# Altium integrated library workerBoard_recovered.IntLib: 33 symbols
Pins are listed as number, name and electrical type; pins without a type are passive.

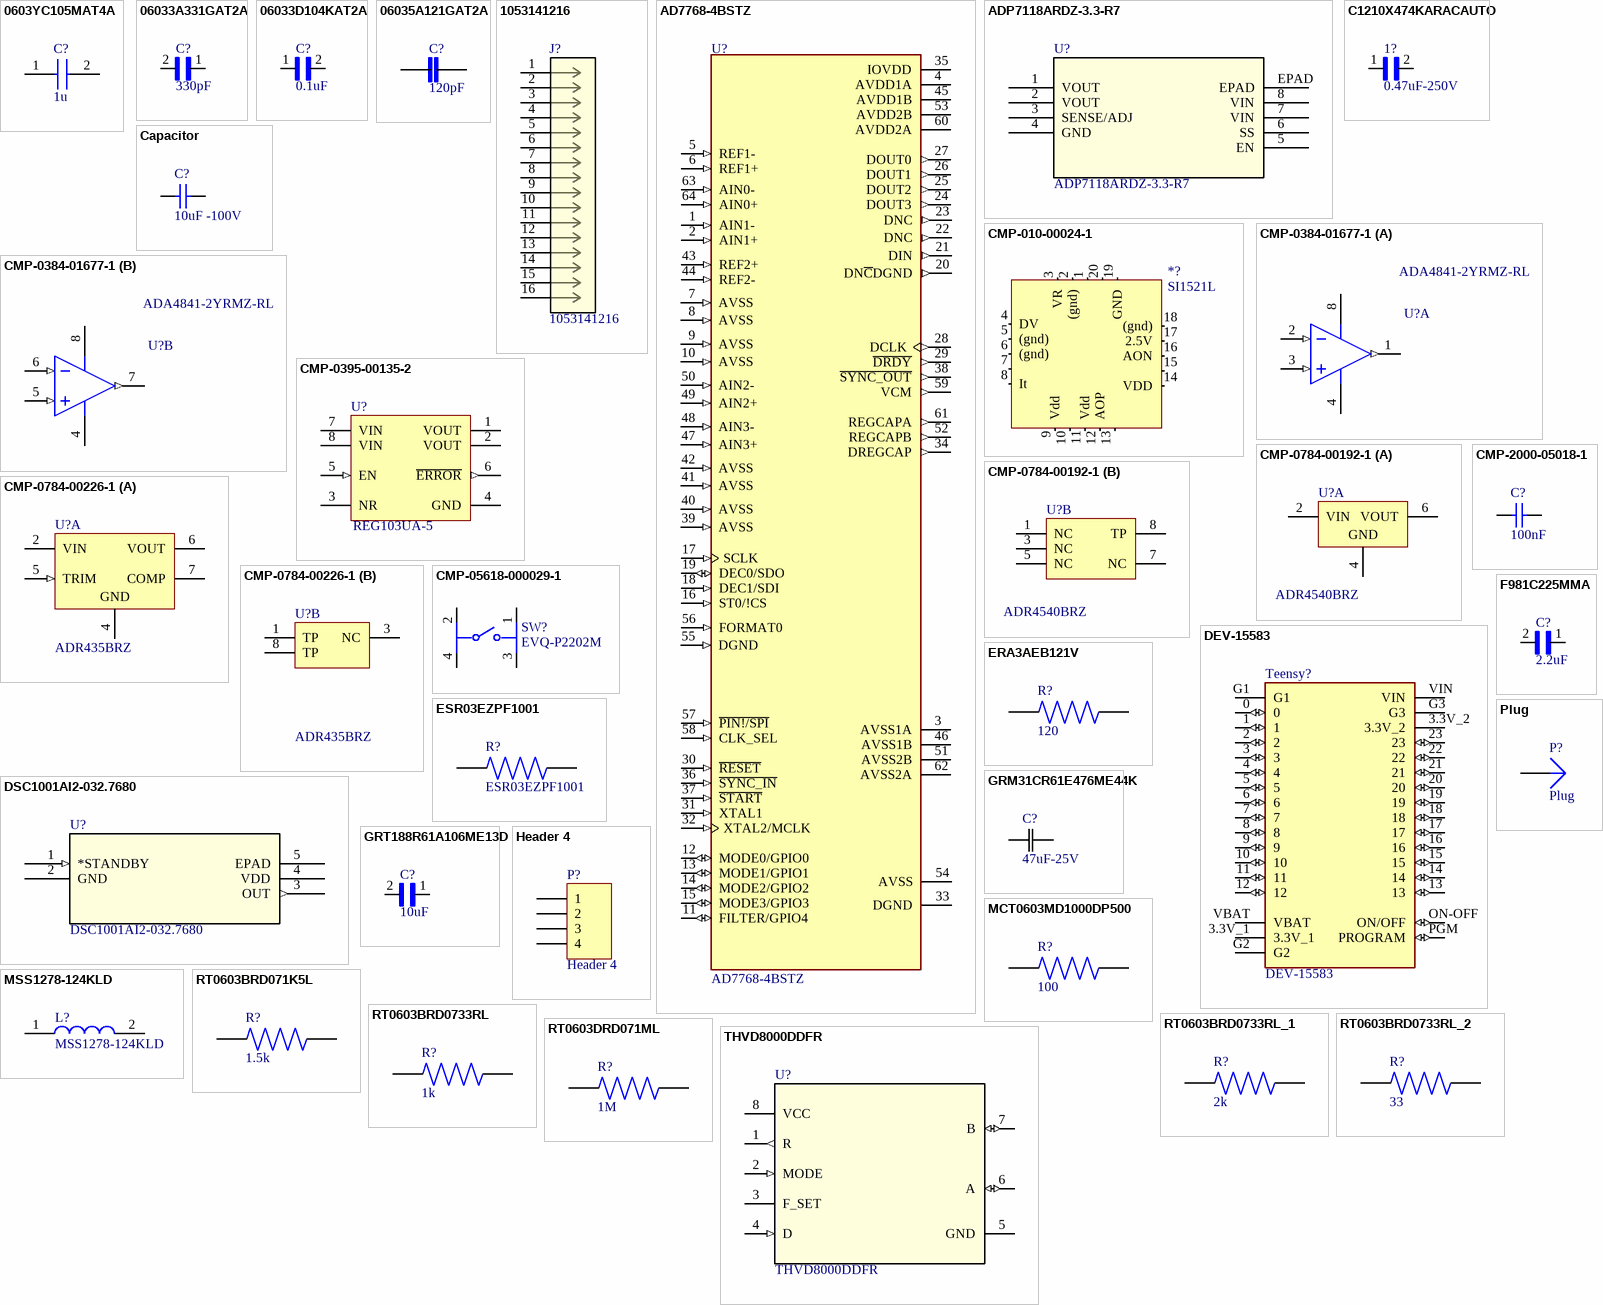
[diagram p0: symbols 0603YC105MAT4A to THVD8000DDFR]

## 0603YC105MAT4A
designator C?, comment 1u
Capacitor; Manufacturer_Name: AVX; Manufacturer_Part_Number: 0603YC105MAT4A; Datasheet Link: https://componentsearchengine.com/Datasheets/1/06031A100FAT2A.pdf; Height: 0.9mm
footprint CAPC1608X90N
pins: 1, 2

## 06033A331GAT2A
designator C?, comment 330pF
0603 SMD Ceramic Capacitors 0603 330pF 25volts C0G 2%; MP: 06033A331GAT2A; MF: {'manufacturer': u'AVX'}; Price: None; Availability: Unavailable; Value: *; Package: None
footprint CAPC1608X90
pins: 1, 2

## 06033D104KAT2A
designator C?, comment 0.1uF
Cap Ceramic 0.1uF 25V X5R 10% SMD 0603 85ÂÂŽ T/R; MP: 06033D104KAT2A; MF: {'manufacturer': u'AVX'}; Price: None; Availability: Unavailable; Value: *; Package: None
footprint CAPC1608X90N
pins: 1, 2

## 06035A121GAT2A
designator C?, comment 120pF
0603 120 pF 50 V Â±2 % Tolerance C0G/NP0 SMT Multilayer Ceramic Capacitor; MP: 06035A121GAT2A; MF: {'manufacturer': u'AVX'}; Price: None; Availability: Unavailable; Value: *; Package: None
footprint CAPC1608X90
pins: 1, 2

## 1053141216
designator J?
No Description Available; Mfr_Name: Molex Connector Corporation; Copyright: Copyright (C) 2021 Ultra Librarian. All rights reserved.; Manufacturer_Part_Number: 1053141216; Digi-Key_Part_Number_1: WM15165-ND; RefDes: RefDes; Type: DEV
footprint CON_1053141216
pins: 1, 2, 3, 4, 5, 6, 7, 8, 9, 10, 11, 12, 13, 14, 15, 16

## AD7768-4BSTZ
designator U?
24 Bit Analog to Digital Converter 4 Input 4 Sigma-Delta 64-LQFP _10x10_; MF: Analog Devices; Digi-Key_Purchase_URL: https://www.digikey.com/product-detail/en/analog-devices-inc/AD7768-4BSTZ/AD7768-4BSTZ-ND/6072260?utm_source=snapeda&utm_medium=aggregator&utm_campaign=symbol; Package: LQFP -64 Analog Devices; SnapEDA_Link: https://www.snapeda.com/parts/AD7768-4BSTZ/Analog%20Devices%20Inc./view-part/501603/?ref=snap; Value: *; MP: AD7768-4BSTZ; Digi-Key_Part_Number: AD7768-4BSTZ-ND
footprint QFP50P1200X1200X160-64N
pins: 1 AIN1- (in), 2 AIN1+ (in), 3 AVSS1A (power), 4 AVDD1A (power), 5 REF1- (in), 6 REF1+ (in), 7 AVSS (in), 8 AVSS (in), 9 AVSS (in), 10 AVSS (in), 11 FILTER/GPIO4 (io), 12 MODE0/GPIO0 (io), 13 MODE1/GPIO1 (io), 14 MODE2/GPIO2 (io), 15 MODE3/GPIO3 (io), 16 ST0/!CS (in), 17 SCLK (in), 18 DEC1/SDI (in), 19 DEC0/SDO (io), 20 DN~{C}DGND (out), 21 DIN (out), 22 DNC (out), 23 DNC (out), 24 DOUT3 (out), 25 DOUT2 (out), 26 DOUT1 (out), 27 DOUT0 (out), 28 DCLK (out), 29 ~{DRDY} (out), 30 ~{RESET} (in), 31 XTAL1 (in), 32 XTAL2/MCLK (in), 33 DGND (power), 34 DREGCAP (out), 35 IOVDD (power), 36 ~{SYNC_IN} (in), 37 ~{START} (in), 38 ~{SYNC_OUT} (out), 39 AVSS (in), 40 AVSS (in), 41 AVSS (in), 42 AVSS (in), 43 REF2+ (in), 44 REF2- (in), 45 AVDD1B (power), 46 AVSS1B (power), 47 AIN3+ (in), 48 AIN3- (in), 49 AIN2+ (in), 50 AIN2- (in), 51 AVSS2B (power), 52 REGCAPB (out), 53 AVDD2B (power), 54 AVSS (power), 55 DGND (in), 56 FORMAT0 (in), 57 ~{PIN!/SPI} (in), 58 CLK_SEL (in), 59 VCM (out), 60 AVDD2A (power), 61 REGCAPA (out), 62 AVSS2A (power), 63 AIN0- (in), 64 AIN0+ (in)

## ADP7118ARDZ-3.3-R7
designator U?
No Description Available; Mfr_Name: Analog Devices Inc; Copyright: Copyright (C) 2021 Ultra Librarian. All rights reserved.; Manufacturer_Part_Number: ADP7118ARDZ-3.3-R7; RefDes: RefDes; Type: DEV
footprint SOIC_08_EP_3P9X4P9_ADI
footprint Model Name (Footprint not found)
footprint Model Name (Footprint not found)
footprint Model Name (Footprint not found)
pins: 1 VOUT (power), 2 VOUT (power), 3 SENSE/ADJ, 4 GND, 5 EN, 6 SS, 7 VIN, 8 VIN, EPAD

## C1210X474KARACAUTO
designator 1?, comment 0.47uF-250V
MP: C1210X474KARACAUTO; MF: {'manufacturer': u'KEMET'}; Value: *; Package: None; Price: None; Availability: Unavailable
footprint CAPC3326X280N
footprint Model Name (Footprint not found)
footprint CAPC3326X280N
pins: 1, 2

## Capacitor
designator C?  value 10uF -100V  (hidden comment: Capacitor)
SimulationGenericComponent: True
simulation model C_Capacitor_Default (CAP)
pins: 1, 2

## CMP-010-00024-1
designator *?, comment SI1521L
Silicon Design SI-1521L-002 +- 2g LCC-20 Surface mount accelerometer; Component Type: Sensors
footprint LCC127P889X889X254-20N (LCC, 20-Pins, Body 8.89x8.89mmx2.54mm, Pitch 1.27mm, IPC Medium Density)
pins: 1 (in), 2 (gnd) (in), 3 VR (in), 4 DV (in), 5 (gnd) (in), 6 (gnd) (in), 7 (in), 8 It (in), 9 Vdd (in), 10 (in), 11 Vdd (in), 12 AOP (in), 13 (in), 14 VDD (in), 15 (in), 16 AON (in), 17 2.5V (in), 18 (gnd) (in), 19 GND (in), 20 (in)

## CMP-0384-01677-1
designator U?, comment ADA4841-2YRMZ-RL
Double Channel Low Wide Band Noise Operational Amplifier, 80 MHz BW, 13 V/us SR, Industrial, 8-pin SOP (RM-8), Reel; Manufacturer: Analog Devices; Slew Rate: 13V/us; Iq/Amp: 1.5mA; Amplifiers Per Package: 2; Small Signal Bandwidth: 80MHz; V Span Min: 2.7V; V Span Max: 12V; Input Offset Voltage: 40uV; Input Bias Current: 3uA; ComponentLink3URL: http://www.analog.com/static/imported-files/packages/PKG_PDF/MSOP%28RM%29/RM_8.pdf; PartNumber: ADA4841-2YRMZ-RL; Mounting Technology: Surface Mount; DatasheetVersion: Rev. E; PackageDescription: 8-Pin Mini Small Outline Package, Body 3 x 3 mm, Pitch 0.65 mm; PackageReference: RM-8; ComponentLink2URL: http://www.analog.com/static/imported-files/data_sheets/ADA4841-1_4841-2.pdf; ComponentLink1Description: Manufacturer URL; ComponentLink2Description: Datasheet; Generic Part Number: ADA4841-2; ComponentLink1URL: http://www.analog.com/en/index.html; Code_JEDEC: MO-187-AA; ComponentLink3Description: Package Specification; Manufacturer Part Number: ADA4841-2YRMZ-RL
footprint ADI-RM-8_M (SOP, 8-Leads, Body 3x3mm, Pitch 0.65mm, IPC Low Density)
footprint ADI-RM-8_L (SOP, 8-Leads, Body 3x3mm, Pitch 0.65mm, IPC High Density)
footprint ADI-RM-8_N (SOP, 8-Leads, Body 3x3mm, Pitch 0.65mm, IPC Medium Density)
pins on every part: 4 -VS (power), 8 +VS (power)
part A pins: 1 OUT 1 (out), 2 -IN 1 (in), 3 +IN 1 (in)
part B pins: 5 +IN 2 (in), 6 -IN 2 (in), 7 OUT 2 (out)

## CMP-0395-00135-2
designator U?, comment REG103UA-5
Single Output Fast Transient Response LDO, 500 mA, Fixed 5 V Output, 2.1 to 15 V Input, 8-pin SOIC (D), -55 to 125 degC, Green (RoHS & no Sb/Br); Manufacturer: Texas Instruments; Vdo(Typ)(mV): 160; Accuracy(%): 2; Iq(Typ)(mA): 0.5; Vin(Max)(V): 15; Power Good: TRUE; SubFamily: Single Channel LDO; Vout Adj(Max)(V): 5; Vin(Min)(V): 2.1; Mounting Technology: Surface Mount; ComponentLink1URL: http://www.ti.com/; PackageReference: D0008A; ComponentLink1Description: Manufacturer URL; Eco-Plan: Green (RoHS & no Sb/Br); PackageVersion: 4040047-3/M; PartNumber: REG103UA-5; Code_JEDEC: MS-012; DatasheetVersion: SBVS010D; ComponentLink2Description: Datasheet; PackageDescription: 8-Pin Plastic Small Outline, Body 4.9 x 3.9 mm, Pitch 1.27 mm; ComponentLink2URL: http://www.ti.com/general/docs/lit/getliterature.tsp?genericPartNumber=REG103-5&fileType=pdf; ComponentLink3URL: http://www.ti.com/litv/pdf/msoi002j; Fixed Output Options(V): 5; Iout(Max)(A): 0.5; Vout Adj(Min)(V): 5; ComponentLink3Description: Package Specification; Manufacturer Part Number: REG103UA-5
footprint D0008A_M (SOIC, 8-Leads, Body 5x4mm, Pitch 1.27mm, IPC Low Density)
footprint D0008A_L (SOIC, 8-Leads, Body 5x4mm, Pitch 1.27mm, IPC High Density)
footprint D0008A_N (SOIC, 8-Leads, Body 5x4mm, Pitch 1.27mm, IPC Medium Density)
pins: 1 VOUT (power), 2 VOUT (power), 3 NR, 4 GND (power), 5 EN (in), 6 ~{ERROR} (out), 7 VIN (power), 8 VIN (power)

## CMP-0784-00192-1
designator U?, comment ADR4540BRZ
Ultralow Noise, High Accuracy Voltage Reference, 4.096 V Output, 3 to 15 V Supply, Industrial, 8-pin SOIC (R-8), Tube; Manufacturer: Analog Devices; Max V Supply (V): 15; Min V Supply (V): 3; Vout: 4.096V; Ref Out TC (ppm/C): 2; ComponentLink4URL: Product URL:http://www.analog.com/en/special-linear-functions/voltage-references/adr4540/products/product.html; Mounting Technology: Surface Mount; ComponentLink1Description: Manufacturer URL; PackageDescription: 8-Pin Standard Small Outline Package, Body 4.9 x 3.9 mm, Pitch 1.27 mm; ComponentLink2URL: http://www.analog.com/static/imported-files/data_sheets/ADR4520_4525_4530_4533_4540_4550.pdf; ComponentLink1URL: http://www.analog.com/en/index.html; DatasheetVersion: Rev. 0; ComponentLink4Description: URL Link1; Operating Temp Range: -40 to 125 degC; PartNumber: ADR4540BRZ; ComponentLink2Description: Datasheet; ComponentLink3URL: http://www.analog.com/static/imported-files/packages/PKG_PDF/SOIC_Narrow%20(R)/R_8.pdf; ComponentLink3Description: Package Specification; PackageVersion: 060506-A, 06/2006; Packing: Tube; PackageReference: R-8; Code_JEDEC: MS-012-AA; Manufacturer Part Number: ADR4540BRZ
footprint ADI-R-8_M (SOIC, 8-Leads, Body 4.9x3.9mm, Pitch 1.27mm, IPC Low Density)
footprint ADI-R-8_L (SOIC, 8-Leads, Body 4.9x3.9mm, Pitch 1.27mm, IPC High Density)
footprint ADI-R-8_N (SOIC, 8-Leads, Body 4.9x3.9mm, Pitch 1.27mm, IPC Medium Density)
part A pins: 2 VIN (power) "Input Voltage Connection.", 4 GND (power) "Ground.", 6 VOUT (power) "Output Voltage."
part B pins: 1 NC "No Connect. This pin is not connected internally.", 3 NC "No Connect. This pin is not connected internally.", 5 NC "No Connect. This pin is not connected internally.", 7 NC "No Connect. This pin is not connected internally.", 8 TP "Test Pin. Do not connect."

## CMP-0784-00226-1
designator U?, comment ADR435BRZ
Ultralow Noise XFET Voltage Reference with Current Sink and Source Capability, 5 V Output, 7 to 18 V Supply, Industrial, 8-pin SOIC (R-8), Tube; Manufacturer: Analog Devices; Max V Supply (V): 18; Vout: 5V; Ref Out TC (ppm/C): 1; Min V Supply (V): 7; ComponentLink4Description: URL Link1; ComponentLink3Description: Package Specification; Mounting Technology: Surface Mount; DatasheetVersion: Rev. J; PackageDescription: 8-Pin Standard Small Outline Package, Body 4.9 x 3.9 mm, Pitch 1.27 mm; Packing: Tube; PackageVersion: 060506-A, 06/2006; PackageReference: R-8; ComponentLink2Description: Datasheet; PartNumber: ADR435BRZ; ComponentLink3URL: http://www.analog.com/static/imported-files/packages/PKG_PDF/SOIC_Narrow%20(R)/R_8.pdf; ComponentLink1Description: Manufacturer URL; ComponentLink2URL: http://www.analog.com/static/imported-files/data_sheets/ADR430_431_433_434_435_439.pdf; Operating Temp Range: -40 to 125 degC; Code_JEDEC: MS-012-AA; ComponentLink4URL: Product URL:http://www.analog.com/en/special-linear-functions/voltage-references/adr435/products/product.html; ComponentLink1URL: http://www.analog.com/en/index.html; Manufacturer Part Number: ADR435BRZ
footprint ADI-R-8_M (SOIC, 8-Leads, Body 4.9x3.9mm, Pitch 1.27mm, IPC Low Density)
footprint ADI-R-8_N (SOIC, 8-Leads, Body 4.9x3.9mm, Pitch 1.27mm, IPC Medium Density)
footprint ADI-R-8_L (SOIC, 8-Leads, Body 4.9x3.9mm, Pitch 1.27mm, IPC High Density)
part A pins: 2 VIN (power), 4 GND (power), 5 TRIM (in), 6 VOUT (power), 7 COMP
part B pins: 1 TP, 3 NC, 8 TP

## CMP-2000-05018-1
designator C?, comment 100nF
Chip Capacitor, Ceramic, 100 nF, 10%, 50 V, 1206, RoHS, Tape and Reel; Manufacturer: AVX; Manufacturer: Kyocera AVX; Manufacturer Part Number: 12065C104KAT2A; Rated Voltage: 50V; Dielectric: X7R; Datasheet URL: http://www.mouser.com/ds/2/40/cauto-360.pdf; Capacitance: 100nF; Manufacturer URL: http://www.avx.com/; Datasheet Version: Sep-14; Tolerance (%): ±10%; Case Size/Dimension: 1206
footprint CAPC3216X94X50ML20T25 (Chip Capacitor, 2-Leads, Body 3.20x1.60mm, IPC Low Density)
footprint CAPC3216X94X50NL20T25 (Chip Capacitor, 2-Leads, Body 3.20x1.60mm, IPC Medium Density)
footprint CAPC3216X94X50LL20T25 (Chip Capacitor, 2-Leads, Body 3.20x1.60mm, IPC High Density)
pins: 1, 2

## CMP-05618-000029-1
designator SW?, comment EVQ-P2202M
SWITCH TACTILE SPST-NO 0.02A 15V; Manufacturer: Panasonic; Contact Resistance: 100mR; Actuator Color: Natural; Illumination Type: Non-Illuminated; Switch Travel: 0.25mm; Switch Function: Off-Mom; Throw Configuration: SPST; Max Current Rating: 20mA; Operating Force: 1.6N; Mechanical Life: 1000000Cycles; Actuator Length: 0.45mm; Series: EVQP2; Height: 2.1mm; Max Operating Temperature: 85°C; Min Operating Temperature: -40°C; Voltage Rating (DC): 15V; Size: 3.5mm; Contact Plating: Gold; Contact Current Rating: 20mA; Radiation Hardening: No; REACH SVHC: No SVHC; Mount: Surface Mount; Length: 3.5mm; Packaging: Tape and Reel; Color: Natural; Orientation: Straight; Termination: J-Bend; Max Voltage Rating (DC): 15V; Lead Free: Lead Free; Depth: 5.5mm; Current Rating: 20mA; Package Quantity: 1; Electrical Life: 1000000Cycles; Manufacturer Part Number: EVQ-P2202M
footprint FP-EVQ-P2202M-MFG
pins: 1, 2, 3, 4

## DEV-15583
designator Teensy?
RT1062 Teensy 4.0 i.MX ARMÂ® CortexÂ®-M7 MPU Embedded Evaluation Board; MF: SparkFun Electronics; Value: *; Package: None; Digi-Key_Part_Number: 1568-DEV-15583-ND; Digi-Key_Purchase_URL: https://www.digikey.com/product-detail/en/sparkfun-electronics/DEV-15583/1568-DEV-15583-ND/10384551?utm_source=snapeda&utm_medium=aggregator&utm_campaign=symbol; MP: DEV-15583; SnapEDA_Link: https://www.snapeda.com/parts/DEV-15583/SparkFun%20Electronics/view-part/4001229/?ref=snap
footprint MODULE_DEV-15583
pins: 0 (io), 1 (io), 2 (io), 3 (io), 3.3V_1 (power), 3.3V_2 (power), 4 (io), 5 (io), 6 (io), 7 (io), 8 (io), 9 (io), 10 (io), 11 (io), 12 (io), 13 (io), 14 (io), 15 (io), 16 (io), 17 (io), 18 (io), 19 (io), 20 (io), 21 (io), 22 (io), 23 (io), G1 (power), G2 (power), G3 (power), ON-OFF ON/OFF (io), PGM PROGRAM (io), VBAT (power), VIN (power)

## DSC1001AI2-032.7680
designator U?
No Description Available; Mfr_Name: Microchip; Copyright: Copyright (C) 2021 Ultra Librarian. All rights reserved.; Manufacturer_Part_Number: DSC1001AI2-032.7680; Digi-Key_Part_Number_1: DSC1001AI2-032.7680-ND; RefDes: RefDes; Type: DEV
footprint DFN4_7X5_MCH
pins: 1 *STANDBY (in), 2 GND, 3 OUT (out), 4 VDD (power), 5 EPAD

## ERA3AEB121V
designator R?, comment 120
MP: ERA3AEB121V; MF: {'manufacturer': u'Panasonic'}; Price: None; Availability: Unavailable; Value: *; Package: None
footprint RES_ERA3AEB121V
pins: 1, 2

## ESR03EZPF1001
designator R?
Res 0603 1K Ohm 1% 1/4W Â±100ppm/Â°C Molded SMD Paper T/R; MF: {'manufacturer': u'Rohm'}; Value: *; Price: None; Availability: Unavailable; MP: ESR03EZPF1001; Package: None
footprint RESC1608X55N
pins: 1, 2

## F981C225MMA
designator C?, comment 2.2uF
2.2UF 16V 20%; MP: F981C225MMA; MF: {'manufacturer': u'AVX'}; Package: None; Availability: Unavailable; Value: *; Price: None
footprint CAPC1608X90
pins: 1, 2

## GRM31CR61E476ME44K
designator C?, comment 47uF-25V
No Description Available; Mfr_Name: Murata; Manufacturer_Part_Number: GRM31CR61E476ME44K; Type: DEV; Copyright: Copyright (C) 2021 Ultra Librarian. All rights reserved.; RefDes: RefDes
footprint CAPC3216X125N
pins: 1, 2

## GRT188R61A106ME13D
designator C?, comment 10uF
CAP CER 10UF 10V X5R 0603; MP: GRT188R61A106ME13D; MF: {'manufacturer': u'Murata'}; Price: None; Availability: Unavailable; Value: *; Package: None
footprint CAPC1608X9N
pins: 1, 2

## Header 4
designator P?
Header, 4-Pin; LatestRevisionDate: 17-Jul-2002; LatestRevisionNote: Re-released for DXP Platform.; Publisher: Altium Limited
footprint HDR1X4 (Connector; Header; 4 Position)
signal-integrity model Connector
pins: 1, 2, 3, 4

## MCT0603MD1000DP500
designator R?, comment 100
MP: MCT0603MD1000DP500; MF: {'manufacturer': u'Vishay'}; Price: None; Availability: Unavailable; Value: *; Package: None
footprint RESC1508X55N
pins: 1, 2

## MSS1278-124KLD
designator L?
Inductor; Manufacturer_Name: COILCRAFT; Datasheet Link: https://componentsearchengine.com/Datasheets/1/MSS1278-124KLD.pdf; Height: 8.05mm; Manufacturer_Part_Number: MSS1278-124KLD
footprint INDPM120120X805N
pins: 1, 2

## Plug
designator P?
LatestRevisionDate: 17-Jul-2002; LatestRevisionNote: Re-released for DXP Platform.; Publisher: Altium Limited
footprint PIN1 (Connector; Plug)
signal-integrity model Connector
pins: 1

## RT0603BRD071K5L
designator R?, comment 1.5k
MP: RT0603BRD071K5L; MF: {'manufacturer': u'Yageo'}; Price: None; Availability: Unavailable; Value: *; Package: None
footprint RESC1608X55N
pins: 1, 2

## RT0603BRD0733RL
designator R?, comment 1k
RES SMD 33 OHM 0.1% 1/10W 0603; MP: RT0603BRD0733RL; MF: {'manufacturer': u'Yageo'}; Price: None; Availability: Unavailable; Value: *; Package: None
footprint RESC1608X55N
pins: 1, 2

## RT0603BRD0733RL_1
designator R?, comment 2k
RES SMD 33 OHM 0.1% 1/10W 0603; MP: RT0603BRD0733RL; MF: {'manufacturer': u'Yageo'}; Price: None; Availability: Unavailable; Value: *; Package: None
footprint RESC1608X55N
pins: 1, 2

## RT0603BRD0733RL_2
designator R?, comment 33
RES SMD 33 OHM 0.1% 1/10W 0603; MP: RT0603BRD0733RL; MF: {'manufacturer': u'Yageo'}; Price: None; Availability: Unavailable; Value: *; Package: None
footprint RESC1608X55N
pins: 1, 2

## RT0603DRD071ML
designator R?, comment 1M
MP: RT0603DRD071ML; MF: {'manufacturer': u'Yageo'}; Price: None; Availability: Unavailable; Value: *; Package: None
footprint RESC1608X55N
pins: 1, 2

## THVD8000DDFR
designator U?
No Description Available; Mfr_Name: Texas Instruments; Type: DEV; RefDes: RefDes; Copyright: Copyright (C) 2021 Ultra Librarian. All rights reserved.; Manufacturer_Part_Number: THVD8000DDFR
footprint DDF0008A-IPC_A
pins: 1 R (out), 2 MODE (in), 3 F_SET, 4 D (in), 5 GND (power), 6 A (io), 7 B (io), 8 VCC (power)